# EAGLE library part RGBLED (library LED)
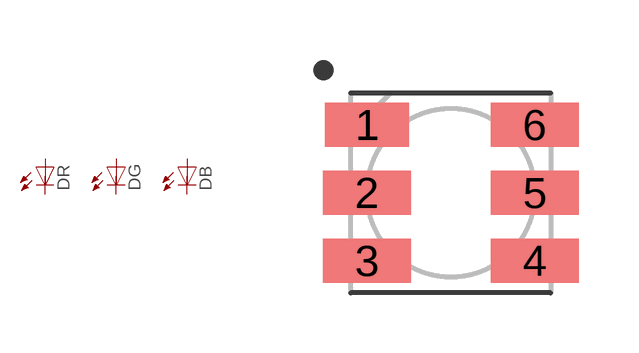
[diagram p0: symbol with the pads of 5050; footprint 5050]

Designator prefix D; gates R=LED G=LED B=LED

## RGBLED  [5050]
1  G:A  pas
2  R:A  pas
3  B:A  pas
4  B:C  pas
5  R:C  pas
6  G:C  pas

## Footprint 5050 (pad centres in mm)
smd 2.1 x 1.1: 1 -2.1,1.7
smd 2.2 x 1.1: 2 -2.1,0; 3 -2.1,-1.7; 4 2.1,-1.7; 5 2.1,0; 6 2.1,1.7